# Altium footprint library shortfinder.PcbLib: 21 footprints (part 2 of 2)
Each footprint in its own frame and in the unit in brackets; x right, y up, seen from the top. Pads: shape width x height; smd on the part's side, far side on the other; paste and mask are expansions set on the pad; w line width, h text height; cw(c..) or ccw(c..) is an arc to the next point about the centre after c.
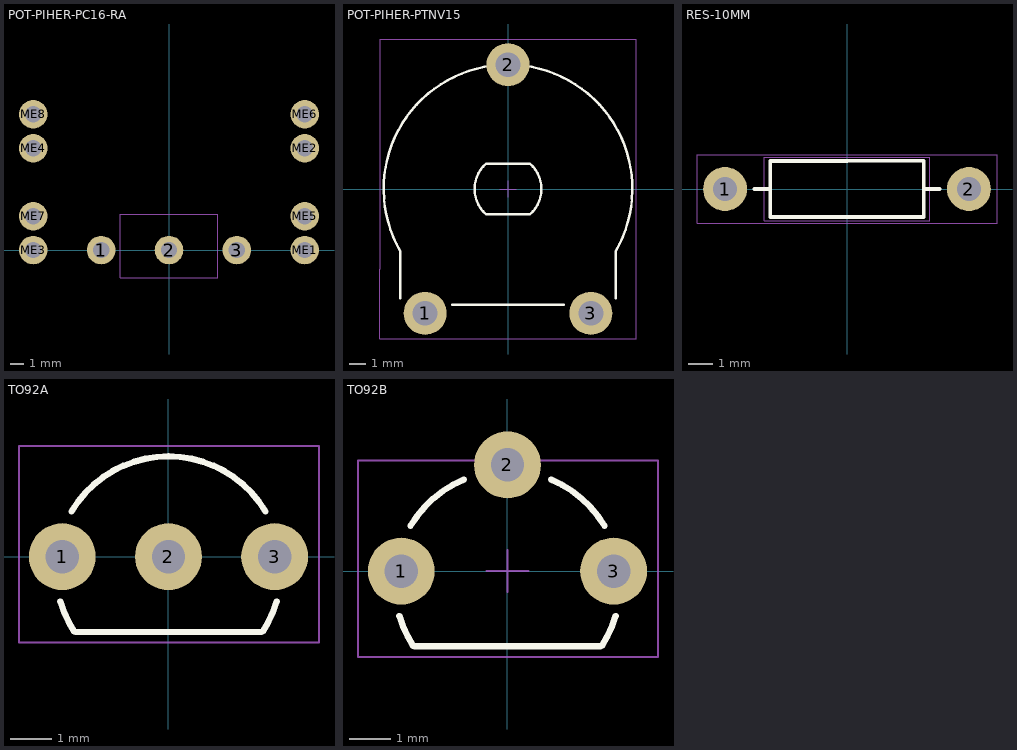
[diagram p1: the footprints below, top view; thin cyan lines are the x and y axes]

## POT-PIHER-PC16-RA [mm]
pads (11):
  round 2.1 hole 1.2 mask+0.1: 1(-5,0) 2(0,0) 3(5,0) ME1(10,0) ME2(10,7.5) ME3(-10,0) ME4(-10,7.5) ME5(10,2.5) ME6(10,10) ME7(-10,2.5) ME8(-10,10)
Mechanical 15:
  lines w0.05: -0.5,0 0,0 ; 0,-0.5 0,0 ; 0,0.5 0,0 ; 0.5,0 0,0 ; -3.575,-2.05 -3.575,2.65 0,2.65 3.6,2.65 3.6,-2.05 -3.575,-2.05
3D body "PC16SH10IP06.STEP": height 20.51, standoff -3.99, extent -7.975,-51.857 8.025,1.45

## POT-PIHER-PTNV15 [mm]
pads (3):
  round 2.6 hole 1.5 mask+0.1: 1(-5,-7.5) 2(0,7.5) 3(5,-7.5)
Top Overlay:
  lines w0.15: -6.5,-6.6 -6.5,-3.75 cw(c0,0) 0,7.504 cw(c0,0) 6.5,-3.75 6.5,-6.6 ; -3.375,-6.975 0,-6.975 3.375,-6.975 ; -2.02,0 cw(c0,0) -1.325,1.525 1.325,1.525 cw(c0,0) 2.02,0 cw(c0,0) 1.325,-1.525 -1.325,-1.525 cw(c0,0) -2.02,0
Mechanical 15:
  lines w0.05: -0.5,0 0,0 ; 0,-0.5 0,0 ; 0,0.5 0,0 ; 0.5,0 0,0 ; -7.75,-9.05 7.75,-9.05 7.75,9.05 -7.75,9.05 -7.75,-4.85 -7.75,-9.05
3D body "19-PIHER_3D_PT15NV15.STEP": height 7.02, standoff -3.99, extent -7.5,-7.804 7.5,7.648

## RES-10MM [mm]
pads (2):
  round 1.8 hole 1 mask+0.1: 1(-5,0) 2(5,0)
Top Overlay:
  lines w0.15: -3.8,0 -3.175,0 ; 0,1.15 -3.15,1.15 -3.15,0.25 -3.15,-1.15 0,-1.15 3.15,-1.15 3.15,0 ; 0.001,1.151 3.15,1.151 3.15,0.253 3.15,0 ; 3.8,0 3.15,0
Mechanical 13:
  lines w0.05: -3.4,-1.3 0,-1.3 3.4,-1.3 3.4,0 3.4,1.3 0,1.3 -3.4,1.3 -3.4,0 -3.4,-1.3
Mechanical 15:
  lines w0.05: -6.15,-1.4 -6.15,0 -6.15,1.4 0,1.4 6.15,1.4 6.15,0 6.15,-1.4 0,-1.4 -6.15,-1.4
3D body "User Library-res_025x10.STEP": height 2.67, standoff -2.13, extent -5.25,-1.291 5.25,1.291

## TO92A [mm]
pads (3):
  round 1.6 hole 0.8 mask+0.1: 1(-2.54,0) 2(0,0) 3(2.54,0)
Top Overlay:
  lines w0.15: -2.587,-1.071 ccw(c0,-0.3) -2.25,-1.792 ; -2.32,1.082 cw(c0,-0.3) 0,2.4 cw(c0,-0.3) 2.32,1.082 ; -2.225,-1.8 0,-1.8 2.225,-1.8 ; 2.25,-1.792 ccw(c0,-0.3) 2.587,-1.071
Mechanical 15:
  lines w0.05: -0.5,0 0,0 ; 0,-0.5 0,0 ; 0,0.5 0,0 ; 0.5,0 0,0 ; -3.575,-2.05 3.6,-2.05 3.6,2.65 0,2.65 -3.575,2.65 -3.575,-2.05
3D body "User Library-TO-92-2_54-line-1.STEP": height 9.7, standoff -2.7, extent -2.798,-1.7 2.798,2.23

## TO92B [mm]
pads (3):
  round 1.6 hole 0.8 mask+0.1: 1(-2.54,0) 2(0,2.54) 3(2.54,0)
Top Overlay:
  lines w0.15: -2.587,-1.071 ccw(c0,-0.3) -2.25,-1.792 ; -2.32,1.082 cw(c0,-0.3) -1.042,2.191 ; -2.225,-1.8 0,-1.8 2.225,-1.8 ; 1.042,2.191 cw(c0,-0.3) 2.32,1.082 ; 2.25,-1.792 ccw(c0,-0.3) 2.587,-1.071
Mechanical 15:
  lines w0.05: -0.5,0 0,0 ; 0,-0.5 0,0 ; 0,0.5 0,0 ; 0.5,0 0,0 ; -3.575,-2.05 -3.575,2.65 0,2.65 3.6,2.65 3.6,-2.05 -3.575,-2.05